# Altium footprint library UT-M3485.PcbLib: 1 footprints
Each footprint in its own frame and in the unit in brackets; x right, y up, seen from the top. Pads: shape width x height; smd on the part's side, far side on the other; paste and mask are expansions set on the pad; w line width, h text height; cw(c..) or ccw(c..) is an arc to the next point about the centre after c.
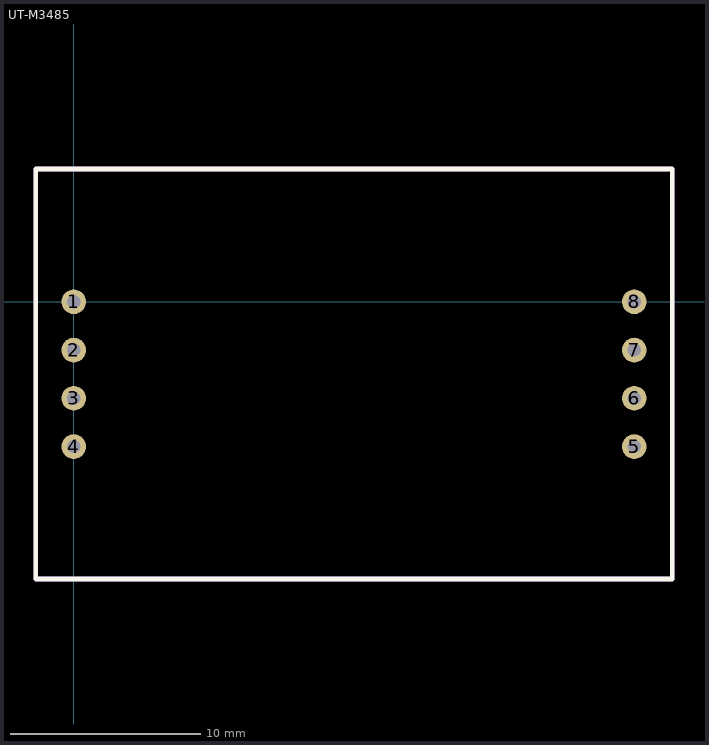
[diagram p0: the footprint, top view; thin cyan lines are the x and y axes]

## UT-M3485 [mm] "485-ISOLATED"
pads (8):
  round 1.3 hole 0.7: 1(0,0) 2(0,-2.54) 3(0,-5.08) 4(0,-7.62) 5(29.5,-7.62) 6(29.5,-5.08) 7(29.5,-2.54) 8(29.5,0)
Top Overlay:
  lines w0.254: -2,-14.6 31.5,-14.6 31.5,7 -2,7 -2,-14.6
Mechanical 1:
  lines w0.254: -2,-14.6 0,-14.6 31.5,-14.6 31.5,7 -2,7 -2,0 -2,-12.6 -2,-14.6